# Altium footprint library bici_components_abby.PcbLib: 48 footprints (part 2 of 3)
Each footprint in its own frame and in the unit in brackets; x right, y up, seen from the top. Pads: shape width x height; smd on the part's side, far side on the other; paste and mask are expansions set on the pad; w line width, h text height; cw(c..) or ccw(c..) is an arc to the next point about the centre after c.
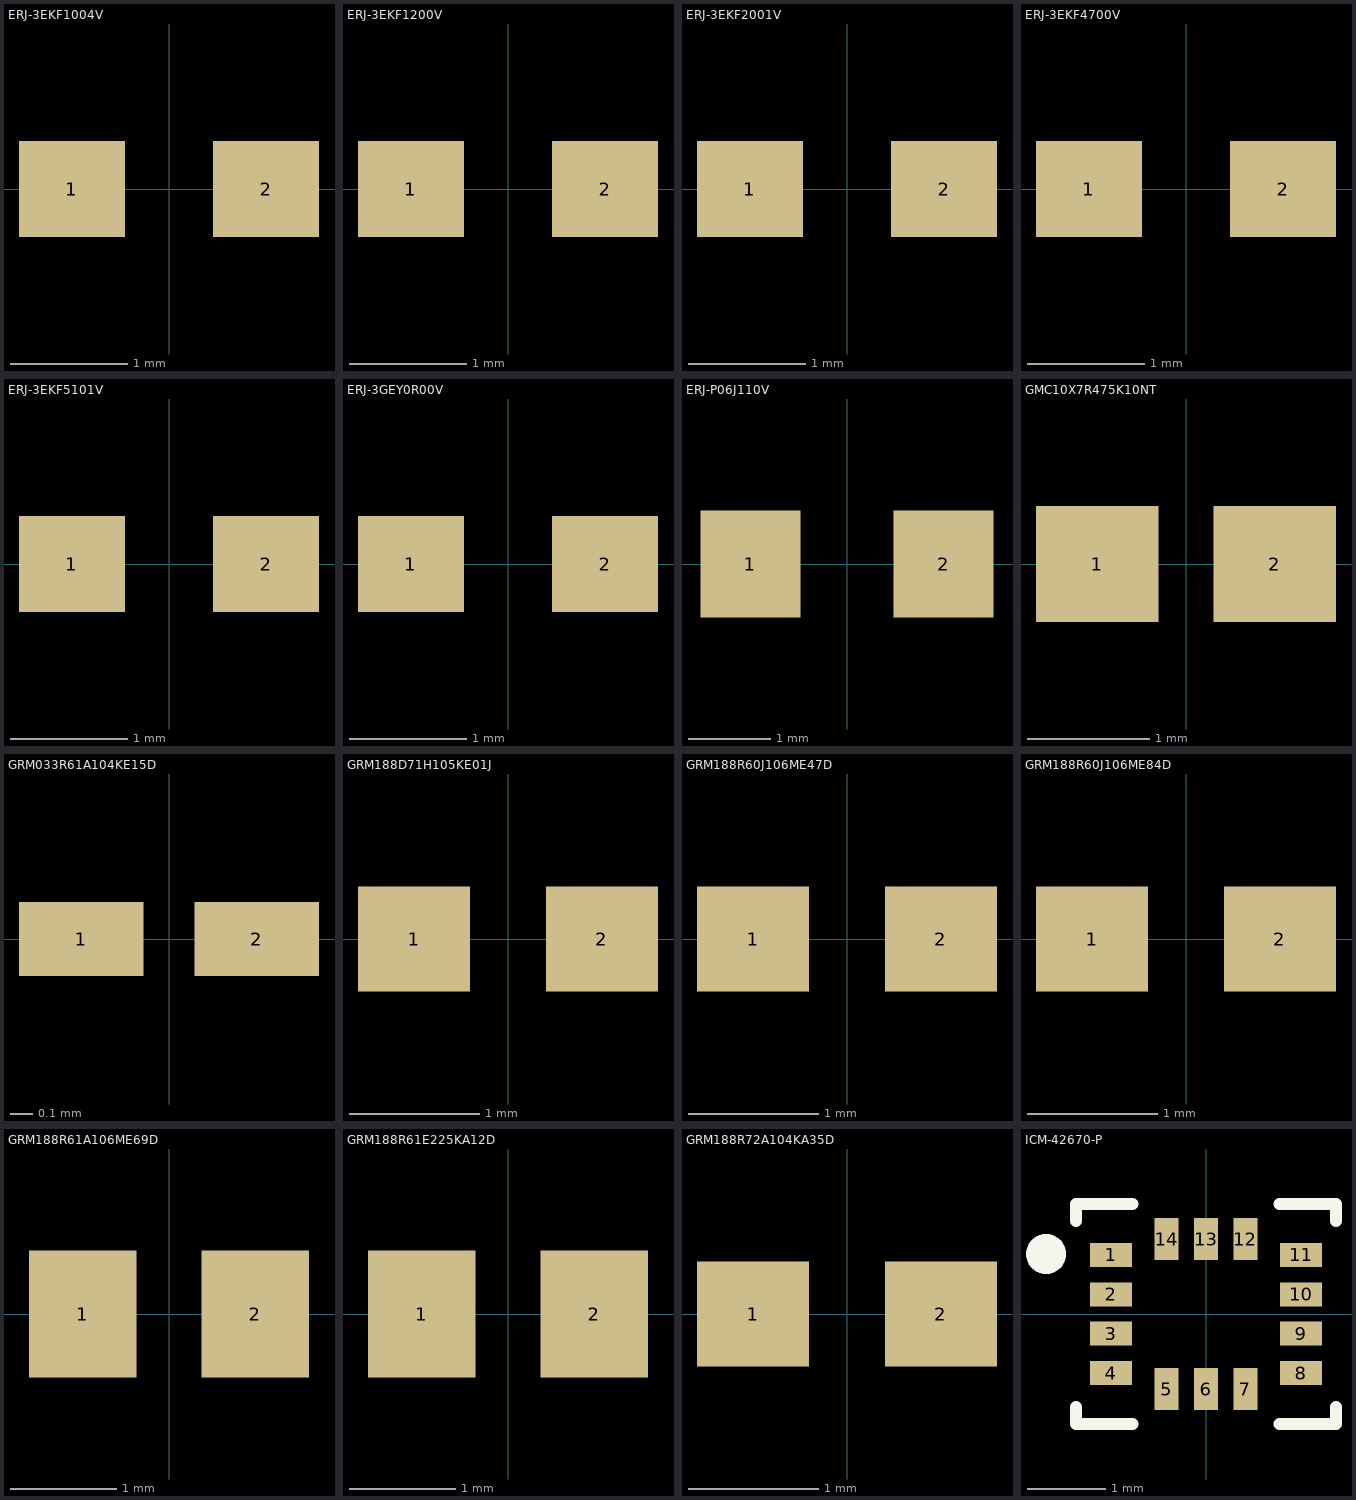
[diagram p1: the footprints below, top view; thin cyan lines are the x and y axes]

## ERJ-3EKF1004V [mil]
pads (2):
  rect 35.4x32 smd paste+0 mask+4: 1(-32.5,0) 2(32.5,0)
3D body "RC0603N_PAN.step": height 27.99, standoff 0, extent -31.5,-15.75 31.5,15.75

## ERJ-3EKF1200V [mil]
pads (2):
  rect 35.4x32 smd paste+0 mask+4: 1(-32.5,0) 2(32.5,0)
3D body "RC0603N_PAN.step": height 27.99, standoff 0, extent -31.5,-15.75 31.5,15.75

## ERJ-3EKF2001V [mil]
pads (2):
  rect 35.4x32 smd paste+0 mask+4: 1(-32.5,0) 2(32.5,0)
3D body "RC0603N_PAN.step": height 27.99, standoff 0, extent -31.5,-15.75 31.5,15.75

## ERJ-3EKF4700V [mil]
pads (2):
  rect 35.4x32 smd paste+0 mask+4: 1(-32.5,0) 2(32.5,0)
3D body "RC0603N_PAN.step": height 27.99, standoff 0, extent -31.5,-15.75 31.5,15.75

## ERJ-3EKF5101V [mil]
pads (2):
  rect 35.4x32 smd paste+0 mask+4: 1(-32.5,0) 2(32.5,0)
3D body "RC0603N_PAN.step": height 27.99, standoff 0, extent -31.5,-15.75 31.5,15.75

## ERJ-3GEY0R00V [mil]
pads (2):
  rect 35.4x32 smd paste+0 mask+4: 1(-32.5,0) 2(32.5,0)
3D body "RC0603N_PAN.step": height 27.99, standoff 0, extent -31.5,-15.75 31.5,15.75

## ERJ-P06J110V [mm]
pads (2):
  rect 1.219x1.3 smd: 1(-1.175,0) 2(1.175,0)
3D body "ERJ-P06J110V.step": height 0.6, standoff 0, extent -1,-0.625 1,0.625

## GMC10X7R475K10NT [mm]
pads (2):
  rect 1x0.95 smd paste+0 mask+0.102: 1(-0.725,0) 2(0.725,0)
3D body "CAPC17595_95N_KEM.step": height 0.95, standoff 0, extent -0.875,-0.475 0.875,0.475

## GRM033R61A104KE15D [mil]
pads (2):
  rect 22x13 smd paste+0 mask+4: 1(-15.5,0) 2(15.5,0)
3D body "CAP_GRM03KE15D_P6XP3_MUR.step": height 12.99, standoff 0, extent -12.52,-6.5 12.52,6.5

## GRM188D71H105KE01J [mil]
pads (2):
  rect 34x32 smd paste+0 mask+4: 1(-28.5,0) 2(28.5,0)
3D body "G-188_MUR.step": height 35, standoff 0, extent -31.5,-15.98 31.5,15.98

## GRM188R60J106ME47D [mil]
pads (2):
  rect 34x32 smd paste+0 mask+4: 1(-28.5,0) 2(28.5,0)
3D body "G-188_MUR.step": height 35, standoff 0, extent -31.5,-15.98 31.5,15.98

## GRM188R60J106ME84D [mil]
pads (2):
  rect 34x32 smd paste+0 mask+4: 1(-28.5,0) 2(28.5,0)
3D body "G-188_MUR.step": height 35, standoff 0, extent -31.5,-15.98 31.5,15.98

## GRM188R61A106ME69D [mil]
pads (2):
  rect 40x47.24 smd paste+0 mask+4: 1(-32,0) 2(32,0)
3D body "CAP_GRM188R61A106ME69D_MUR.step": height 37.01, standoff 0, extent -34.49,-18.5 34.49,18.5

## GRM188R61E225KA12D [mil]
pads (2):
  rect 40x47.24 smd paste+0 mask+4: 1(-32,0) 2(32,0)
3D body "CAP_GRM188R61A106ME69D_MUR.step": height 37.01, standoff 0, extent -34.49,-18.5 34.49,18.5

## GRM188R72A104KA35D [mil]
pads (2):
  rect 34x32 smd paste+0 mask+4: 1(-28.5,0) 2(28.5,0)
3D body "G-188_MUR.step": height 35, standoff 0, extent -31.5,-15.98 31.5,15.98

## ICM-42670-P [mil]
pads (14):
  rect 21x12 smd paste+0 mask+1: 1(-47.5,29.53) 2(-47.5,9.84) 3(-47.5,-9.84) 4(-47.5,-29.53) 8(47.5,-29.53) 9(47.5,-9.84) 10(47.5,9.84) 11(47.5,29.53)
  rect 12x21 smd paste+0 mask+1: 5(-19.68,-37.5) 6(0,-37.5) 7(19.68,-37.5) 12(19.68,37.5) 13(0,37.5) 14(-19.68,37.5)
Top Overlay:
  circle w10: c-80,30 r5
  lines w6: -65,-46.6 -65,-55 -36.76,-55 ; -65,46.6 -65,55 -36.76,55 ; 36.76,-55 65,-55 65,-46.6 ; 36.76,55 65,55 65,46.6
3D body "LGA14_25X3X076_IVS.step": height 32.09, standoff 0, extent -60,-50 60,50